# Altium schematic symbol library WRIS-RSKS.SchLib: 516 symbols (part 10 of 10)
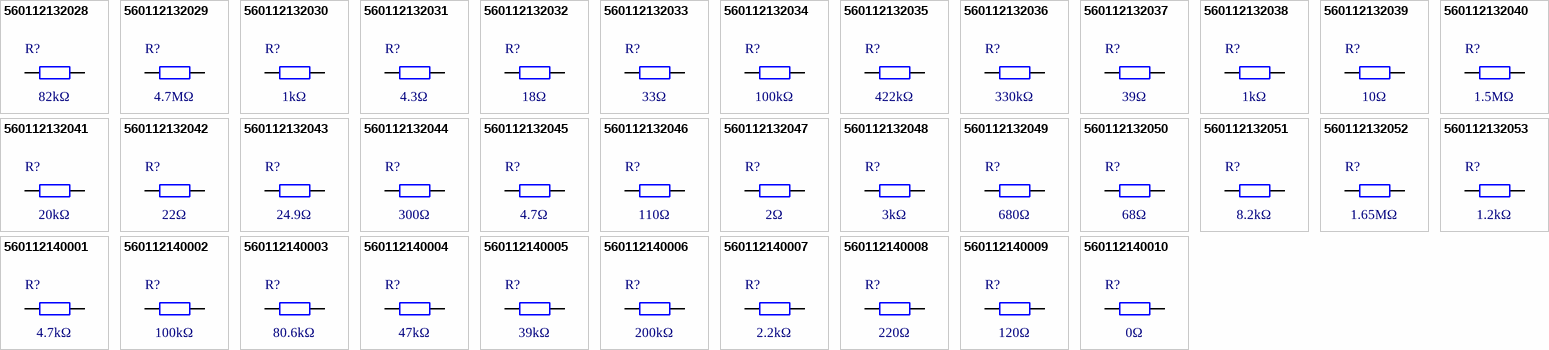
[diagram p21: symbols 560112132028 to 560112140010]

## 560112132035
designator R?, comment 422kΩ
WRIS-RSKS Thick Film Resistor, size 1206, 422kΩ, +/-1%, 250mW; Manufacturer Part Number: 560112132035; Manufacturer: Wurth Elektronik; Case/Size Code: 1206; Limiting Element Voltage: 200V; Temperature Coefficient of Resistance Min: -100ppm/°C; Temperature Coefficient of Resistance Max: 100ppm/°C; Category: Thick Film Resistors; Match Code: WRIS-RSKS; ComponentLink1Description: Website Link; ComponentLink1URL: https://www.we-online.com/redexpert/article/560112132035?ad; ComponentLink2Description: Datasheet Link; ComponentLink2URL: https://www.we-online.com/redexpert/spec/560112132035?ad; Mount: Surface Mount; Min Operating Temperature: -55°C; Max Operating Temperature: 155°C; Packaging: Tape and Reel; Length: 3.1mm; Width: 1.6mm; Height: 0.6mm; Rated Power: 250mW; Resistance: 422kΩ; Resistance Tolerance: +/-1%
footprint WRIS-RSKS_1206_Reflow
footprint WRIS-RSKS_1206_Wave
pins: 1, 2

## 560112132036
designator R?, comment 330kΩ
WRIS-RSKS Thick Film Resistor, size 1206, 330kΩ, +/-1%, 250mW; Manufacturer Part Number: 560112132036; Manufacturer: Wurth Elektronik; Case/Size Code: 1206; Limiting Element Voltage: 200V; Temperature Coefficient of Resistance Min: -100ppm/°C; Temperature Coefficient of Resistance Max: 100ppm/°C; Category: Thick Film Resistors; Match Code: WRIS-RSKS; ComponentLink1Description: Website Link; ComponentLink1URL: https://www.we-online.com/redexpert/article/560112132036?ad; ComponentLink2Description: Datasheet Link; ComponentLink2URL: https://www.we-online.com/redexpert/spec/560112132036?ad; Mount: Surface Mount; Min Operating Temperature: -55°C; Max Operating Temperature: 155°C; Packaging: Tape and Reel; Length: 3.1mm; Width: 1.6mm; Height: 0.6mm; Rated Power: 250mW; Resistance: 330kΩ; Resistance Tolerance: +/-1%
footprint WRIS-RSKS_1206_Reflow
footprint WRIS-RSKS_1206_Wave
pins: 1, 2

## 560112132037
designator R?, comment 39Ω
WRIS-RSKS Thick Film Resistor, size 1206, 39Ω, +/-1%, 250mW; Manufacturer Part Number: 560112132037; Manufacturer: Wurth Elektronik; Case/Size Code: 1206; Limiting Element Voltage: 200V; Temperature Coefficient of Resistance Min: -100ppm/°C; Temperature Coefficient of Resistance Max: 100ppm/°C; Category: Thick Film Resistors; Match Code: WRIS-RSKS; ComponentLink1Description: Website Link; ComponentLink1URL: https://www.we-online.com/redexpert/article/560112132037?ad; ComponentLink2Description: Datasheet Link; ComponentLink2URL: https://www.we-online.com/redexpert/spec/560112132037?ad; Mount: Surface Mount; Min Operating Temperature: -55°C; Max Operating Temperature: 155°C; Packaging: Tape and Reel; Length: 3.1mm; Width: 1.6mm; Height: 0.6mm; Rated Power: 250mW; Resistance: 39Ω; Resistance Tolerance: +/-1%
footprint WRIS-RSKS_1206_Reflow
footprint WRIS-RSKS_1206_Wave
pins: 1, 2

## 560112132038
designator R?, comment 1kΩ
WRIS-RSKS Thick Film Resistor, size 1206, 1kΩ, +/-1%, 250mW; Manufacturer Part Number: 560112132038; Manufacturer: Wurth Elektronik; Case/Size Code: 1206; Limiting Element Voltage: 200V; Temperature Coefficient of Resistance Min: -100ppm/°C; Temperature Coefficient of Resistance Max: 100ppm/°C; Category: Thick Film Resistors; Match Code: WRIS-RSKS; ComponentLink1Description: Website Link; ComponentLink1URL: https://www.we-online.com/redexpert/article/560112132038?ad; ComponentLink2Description: Datasheet Link; ComponentLink2URL: https://www.we-online.com/redexpert/spec/560112132038?ad; Mount: Surface Mount; Min Operating Temperature: -55°C; Max Operating Temperature: 155°C; Packaging: Tape and Reel; Length: 3.1mm; Width: 1.6mm; Height: 0.6mm; Rated Power: 250mW; Resistance: 1kΩ; Resistance Tolerance: +/-1%
footprint WRIS-RSKS_1206_Reflow
footprint WRIS-RSKS_1206_Wave
pins: 1, 2

## 560112132039
designator R?, comment 10Ω
WRIS-RSKS Thick Film Resistor, size 1206, 10Ω, +/-1%, 250mW; Manufacturer Part Number: 560112132039; Manufacturer: Wurth Elektronik; Case/Size Code: 1206; Limiting Element Voltage: 200V; Temperature Coefficient of Resistance Min: -200ppm/°C; Temperature Coefficient of Resistance Max: 400ppm/°C; Category: Thick Film Resistors; Match Code: WRIS-RSKS; ComponentLink1Description: Website Link; ComponentLink1URL: https://www.we-online.com/redexpert/article/560112132039?ad; ComponentLink2Description: Datasheet Link; ComponentLink2URL: https://www.we-online.com/redexpert/spec/560112132039?ad; Mount: Surface Mount; Min Operating Temperature: -55°C; Max Operating Temperature: 155°C; Packaging: Tape and Reel; Length: 3.1mm; Width: 1.6mm; Height: 0.6mm; Rated Power: 250mW; Resistance: 10Ω; Resistance Tolerance: +/-1%
footprint WRIS-RSKS_1206_Reflow
footprint WRIS-RSKS_1206_Wave
pins: 1, 2

## 560112132040
designator R?, comment 1.5MΩ
WRIS-RSKS Thick Film Resistor, size 1206, 1.5MΩ, +/-1%, 250mW; Manufacturer Part Number: 560112132040; Manufacturer: Wurth Elektronik; Case/Size Code: 1206; Limiting Element Voltage: 200V; Temperature Coefficient of Resistance Min: -200ppm/°C; Temperature Coefficient of Resistance Max: 200ppm/°C; Category: Thick Film Resistors; Match Code: WRIS-RSKS; ComponentLink1Description: Website Link; ComponentLink1URL: https://www.we-online.com/redexpert/article/560112132040?ad; ComponentLink2Description: Datasheet Link; ComponentLink2URL: https://www.we-online.com/redexpert/spec/560112132040?ad; Mount: Surface Mount; Min Operating Temperature: -55°C; Max Operating Temperature: 155°C; Packaging: Tape and Reel; Length: 3.1mm; Width: 1.6mm; Height: 0.6mm; Rated Power: 250mW; Resistance: 1.5MΩ; Resistance Tolerance: +/-1%
footprint WRIS-RSKS_1206_Reflow
footprint WRIS-RSKS_1206_Wave
pins: 1, 2

## 560112132041
designator R?, comment 20kΩ
WRIS-RSKS Thick Film Resistor, size 1206, 20kΩ, +/-1%, 250mW; Manufacturer Part Number: 560112132041; Manufacturer: Wurth Elektronik; Case/Size Code: 1206; Limiting Element Voltage: 200V; Temperature Coefficient of Resistance Min: -100ppm/°C; Temperature Coefficient of Resistance Max: 100ppm/°C; Category: Thick Film Resistors; Match Code: WRIS-RSKS; ComponentLink1Description: Website Link; ComponentLink1URL: https://www.we-online.com/redexpert/article/560112132041?ad; ComponentLink2Description: Datasheet Link; ComponentLink2URL: https://www.we-online.com/redexpert/spec/560112132041?ad; Mount: Surface Mount; Min Operating Temperature: -55°C; Max Operating Temperature: 155°C; Packaging: Tape and Reel; Length: 3.1mm; Width: 1.6mm; Height: 0.6mm; Rated Power: 250mW; Resistance: 20kΩ; Resistance Tolerance: +/-1%
footprint WRIS-RSKS_1206_Reflow
footprint WRIS-RSKS_1206_Wave
pins: 1, 2

## 560112132042
designator R?, comment 22Ω
WRIS-RSKS Thick Film Resistor, size 1206, 22Ω, +/-1%, 250mW; Manufacturer Part Number: 560112132042; Manufacturer: Wurth Elektronik; Case/Size Code: 1206; Limiting Element Voltage: 200V; Temperature Coefficient of Resistance Min: -100ppm/°C; Temperature Coefficient of Resistance Max: 100ppm/°C; Category: Thick Film Resistors; Match Code: WRIS-RSKS; ComponentLink1Description: Website Link; ComponentLink1URL: https://www.we-online.com/redexpert/article/560112132042?ad; ComponentLink2Description: Datasheet Link; ComponentLink2URL: https://www.we-online.com/redexpert/spec/560112132042?ad; Mount: Surface Mount; Min Operating Temperature: -55°C; Max Operating Temperature: 155°C; Packaging: Tape and Reel; Length: 3.1mm; Width: 1.6mm; Height: 0.6mm; Rated Power: 250mW; Resistance: 22Ω; Resistance Tolerance: +/-1%
footprint WRIS-RSKS_1206_Reflow
footprint WRIS-RSKS_1206_Wave
pins: 1, 2

## 560112132043
designator R?, comment 24.9Ω
WRIS-RSKS Thick Film Resistor, size 1206, 24.9Ω, +/-1%, 250mW; Manufacturer Part Number: 560112132043; Manufacturer: Wurth Elektronik; Case/Size Code: 1206; Limiting Element Voltage: 200V; Temperature Coefficient of Resistance Min: -100ppm/°C; Temperature Coefficient of Resistance Max: 100ppm/°C; Category: Thick Film Resistors; Match Code: WRIS-RSKS; ComponentLink1Description: Website Link; ComponentLink1URL: https://www.we-online.com/redexpert/article/560112132043?ad; ComponentLink2Description: Datasheet Link; ComponentLink2URL: https://www.we-online.com/redexpert/spec/560112132043?ad; Mount: Surface Mount; Min Operating Temperature: -55°C; Max Operating Temperature: 155°C; Packaging: Tape and Reel; Length: 3.1mm; Width: 1.6mm; Height: 0.6mm; Rated Power: 250mW; Resistance: 24.9Ω; Resistance Tolerance: +/-1%
footprint WRIS-RSKS_1206_Reflow
footprint WRIS-RSKS_1206_Wave
pins: 1, 2

## 560112132044
designator R?, comment 300Ω
WRIS-RSKS Thick Film Resistor, size 1206, 300Ω, +/-1%, 250mW; Manufacturer Part Number: 560112132044; Manufacturer: Wurth Elektronik; Case/Size Code: 1206; Limiting Element Voltage: 200V; Temperature Coefficient of Resistance Min: -100ppm/°C; Temperature Coefficient of Resistance Max: 100ppm/°C; Category: Thick Film Resistors; Match Code: WRIS-RSKS; ComponentLink1Description: Website Link; ComponentLink1URL: https://www.we-online.com/redexpert/article/560112132044?ad; ComponentLink2Description: Datasheet Link; ComponentLink2URL: https://www.we-online.com/redexpert/spec/560112132044?ad; Mount: Surface Mount; Min Operating Temperature: -55°C; Max Operating Temperature: 155°C; Packaging: Tape and Reel; Length: 3.1mm; Width: 1.6mm; Height: 0.6mm; Rated Power: 250mW; Resistance: 300Ω; Resistance Tolerance: +/-1%
footprint WRIS-RSKS_1206_Reflow
footprint WRIS-RSKS_1206_Wave
pins: 1, 2

## 560112132045
designator R?, comment 4.7Ω
WRIS-RSKS Thick Film Resistor, size 1206, 4.7Ω, +/-1%, 250mW; Manufacturer Part Number: 560112132045; Manufacturer: Wurth Elektronik; Case/Size Code: 1206; Limiting Element Voltage: 200V; Temperature Coefficient of Resistance Min: -200ppm/°C; Temperature Coefficient of Resistance Max: 400ppm/°C; Category: Thick Film Resistors; Match Code: WRIS-RSKS; ComponentLink1Description: Website Link; ComponentLink1URL: https://www.we-online.com/redexpert/article/560112132045?ad; ComponentLink2Description: Datasheet Link; ComponentLink2URL: https://www.we-online.com/redexpert/spec/560112132045?ad; Mount: Surface Mount; Min Operating Temperature: -55°C; Max Operating Temperature: 155°C; Packaging: Tape and Reel; Length: 3.1mm; Width: 1.6mm; Height: 0.6mm; Rated Power: 250mW; Resistance: 4.7Ω; Resistance Tolerance: +/-1%
footprint WRIS-RSKS_1206_Reflow
footprint WRIS-RSKS_1206_Wave
pins: 1, 2

## 560112132046
designator R?, comment 110Ω
WRIS-RSKS Thick Film Resistor, size 1206, 110Ω, +/-1%, 250mW; Manufacturer Part Number: 560112132046; Manufacturer: Wurth Elektronik; Case/Size Code: 1206; Limiting Element Voltage: 200V; Temperature Coefficient of Resistance Min: -100ppm/°C; Temperature Coefficient of Resistance Max: 100ppm/°C; Category: Thick Film Resistors; Match Code: WRIS-RSKS; ComponentLink1Description: Website Link; ComponentLink1URL: https://www.we-online.com/redexpert/article/560112132046?ad; ComponentLink2Description: Datasheet Link; ComponentLink2URL: https://www.we-online.com/redexpert/spec/560112132046?ad; Mount: Surface Mount; Min Operating Temperature: -55°C; Max Operating Temperature: 155°C; Packaging: Tape and Reel; Length: 3.1mm; Width: 1.6mm; Height: 0.6mm; Rated Power: 250mW; Resistance: 110Ω; Resistance Tolerance: +/-1%
footprint WRIS-RSKS_1206_Reflow
footprint WRIS-RSKS_1206_Wave
pins: 1, 2

## 560112132047
designator R?, comment 2Ω
WRIS-RSKS Thick Film Resistor, size 1206, 2Ω, +/-5%, 250mW; Manufacturer Part Number: 560112132047; Manufacturer: Wurth Elektronik; Case/Size Code: 1206; Limiting Element Voltage: 200V; Temperature Coefficient of Resistance Min: -200ppm/°C; Temperature Coefficient of Resistance Max: 400ppm/°C; Category: Thick Film Resistors; Match Code: WRIS-RSKS; ComponentLink1Description: Website Link; ComponentLink1URL: https://www.we-online.com/redexpert/article/560112132047?ad; ComponentLink2Description: Datasheet Link; ComponentLink2URL: https://www.we-online.com/redexpert/spec/560112132047?ad; Mount: Surface Mount; Min Operating Temperature: -55°C; Max Operating Temperature: 155°C; Packaging: Tape and Reel; Length: 3.1mm; Width: 1.6mm; Height: 0.6mm; Rated Power: 250mW; Resistance: 2Ω; Resistance Tolerance: +/-5%
footprint WRIS-RSKS_1206_Reflow
footprint WRIS-RSKS_1206_Wave
pins: 1, 2

## 560112132048
designator R?, comment 3kΩ
WRIS-RSKS Thick Film Resistor, size 1206, 3kΩ, +/-1%, 250mW; Manufacturer Part Number: 560112132048; Manufacturer: Wurth Elektronik; Case/Size Code: 1206; Limiting Element Voltage: 200V; Temperature Coefficient of Resistance Min: -100ppm/°C; Temperature Coefficient of Resistance Max: 100ppm/°C; Category: Thick Film Resistors; Match Code: WRIS-RSKS; ComponentLink1Description: Website Link; ComponentLink1URL: https://www.we-online.com/redexpert/article/560112132048?ad; ComponentLink2Description: Datasheet Link; ComponentLink2URL: https://www.we-online.com/redexpert/spec/560112132048?ad; Mount: Surface Mount; Min Operating Temperature: -55°C; Max Operating Temperature: 155°C; Packaging: Tape and Reel; Length: 3.1mm; Width: 1.6mm; Height: 0.6mm; Rated Power: 250mW; Resistance: 3kΩ; Resistance Tolerance: +/-1%
footprint WRIS-RSKS_1206_Reflow
footprint WRIS-RSKS_1206_Wave
pins: 1, 2

## 560112132049
designator R?, comment 680Ω
WRIS-RSKS Thick Film Resistor, size 1206, 680Ω, +/-5%, 250mW; Manufacturer Part Number: 560112132049; Manufacturer: Wurth Elektronik; Case/Size Code: 1206; Limiting Element Voltage: 200V; Temperature Coefficient of Resistance Min: -100ppm/°C; Temperature Coefficient of Resistance Max: 100ppm/°C; Category: Thick Film Resistors; Match Code: WRIS-RSKS; ComponentLink1Description: Website Link; ComponentLink1URL: https://www.we-online.com/redexpert/article/560112132049?ad; ComponentLink2Description: Datasheet Link; ComponentLink2URL: https://www.we-online.com/redexpert/spec/560112132049?ad; Mount: Surface Mount; Min Operating Temperature: -55°C; Max Operating Temperature: 155°C; Packaging: Tape and Reel; Length: 3.1mm; Width: 1.6mm; Height: 0.6mm; Rated Power: 250mW; Resistance: 680Ω; Resistance Tolerance: +/-5%
footprint WRIS-RSKS_1206_Reflow
footprint WRIS-RSKS_1206_Wave
pins: 1, 2

## 560112132050
designator R?, comment 68Ω
WRIS-RSKS Thick Film Resistor, size 1206, 68Ω, +/-1%, 250mW; Manufacturer Part Number: 560112132050; Manufacturer: Wurth Elektronik; Case/Size Code: 1206; Limiting Element Voltage: 200V; Temperature Coefficient of Resistance Min: -100ppm/°C; Temperature Coefficient of Resistance Max: 100ppm/°C; Category: Thick Film Resistors; Match Code: WRIS-RSKS; ComponentLink1Description: Website Link; ComponentLink1URL: https://www.we-online.com/redexpert/article/560112132050?ad; ComponentLink2Description: Datasheet Link; ComponentLink2URL: https://www.we-online.com/redexpert/spec/560112132050?ad; Mount: Surface Mount; Min Operating Temperature: -55°C; Max Operating Temperature: 155°C; Packaging: Tape and Reel; Length: 3.1mm; Width: 1.6mm; Height: 0.6mm; Rated Power: 250mW; Resistance: 68Ω; Resistance Tolerance: +/-1%
footprint WRIS-RSKS_1206_Reflow
footprint WRIS-RSKS_1206_Wave
pins: 1, 2

## 560112132051
designator R?, comment 8.2kΩ
WRIS-RSKS Thick Film Resistor, size 1206, 8.2kΩ, +/-5%, 250mW; Manufacturer Part Number: 560112132051; Manufacturer: Wurth Elektronik; Case/Size Code: 1206; Limiting Element Voltage: 200V; Temperature Coefficient of Resistance Min: -100ppm/°C; Temperature Coefficient of Resistance Max: 100ppm/°C; Category: Thick Film Resistors; Match Code: WRIS-RSKS; ComponentLink1Description: Website Link; ComponentLink1URL: https://www.we-online.com/redexpert/article/560112132051?ad; ComponentLink2Description: Datasheet Link; ComponentLink2URL: https://www.we-online.com/redexpert/spec/560112132051?ad; Mount: Surface Mount; Min Operating Temperature: -55°C; Max Operating Temperature: 155°C; Packaging: Tape and Reel; Length: 3.1mm; Width: 1.6mm; Height: 0.6mm; Rated Power: 250mW; Resistance: 8.2kΩ; Resistance Tolerance: +/-5%
footprint WRIS-RSKS_1206_Reflow
footprint WRIS-RSKS_1206_Wave
pins: 1, 2

## 560112132052
designator R?, comment 1.65MΩ
WRIS-RSKS Thick Film Resistor, size 1206, 1.65MΩ, +/-1%, 250mW; Manufacturer Part Number: 560112132052; Manufacturer: Wurth Elektronik; Case/Size Code: 1206; Limiting Element Voltage: 200V; Temperature Coefficient of Resistance Min: -200ppm/°C; Temperature Coefficient of Resistance Max: 200ppm/°C; Category: Thick Film Resistors; Match Code: WRIS-RSKS; ComponentLink1Description: Website Link; ComponentLink1URL: https://www.we-online.com/redexpert/article/560112132052?ad; ComponentLink2Description: Datasheet Link; ComponentLink2URL: https://www.we-online.com/redexpert/spec/560112132052?ad; Mount: Surface Mount; Min Operating Temperature: -55°C; Max Operating Temperature: 155°C; Packaging: Tape and Reel; Length: 3.1mm; Width: 1.6mm; Height: 0.6mm; Rated Power: 250mW; Resistance: 1.65MΩ; Resistance Tolerance: +/-1%
footprint WRIS-RSKS_1206_Reflow
footprint WRIS-RSKS_1206_Wave
pins: 1, 2

## 560112132053
designator R?, comment 1.2kΩ
WRIS-RSKS Thick Film Resistor, size 1206, 1.2kΩ, +/-1%, 250mW; Manufacturer Part Number: 560112132053; Manufacturer: Wurth Elektronik; Case/Size Code: 1206; Limiting Element Voltage: 200V; Temperature Coefficient of Resistance Min: -100ppm/°C; Temperature Coefficient of Resistance Max: 100ppm/°C; Category: Thick Film Resistors; Match Code: WRIS-RSKS; ComponentLink1Description: Website Link; ComponentLink1URL: https://www.we-online.com/redexpert/article/560112132053?ad; ComponentLink2Description: Datasheet Link; ComponentLink2URL: https://www.we-online.com/redexpert/spec/560112132053?ad; Mount: Surface Mount; Min Operating Temperature: -55°C; Max Operating Temperature: 155°C; Packaging: Tape and Reel; Length: 3.1mm; Width: 1.6mm; Height: 0.6mm; Rated Power: 250mW; Resistance: 1.2kΩ; Resistance Tolerance: +/-1%
footprint WRIS-RSKS_1206_Reflow
footprint WRIS-RSKS_1206_Wave
pins: 1, 2

## 560112140001
designator R?, comment 4.7kΩ
WRIS-RSKS Thick Film Resistor, size 1210, 4.7kΩ, +/-5%, 500mW; Manufacturer Part Number: 560112140001; Manufacturer: Wurth Elektronik; Case/Size Code: 1210; Limiting Element Voltage: 200V; Temperature Coefficient of Resistance Min: -100ppm/°C; Temperature Coefficient of Resistance Max: 100ppm/°C; Category: Thick Film Resistors; Match Code: WRIS-RSKS; ComponentLink1Description: Website Link; ComponentLink1URL: https://www.we-online.com/redexpert/article/560112140001?ad; ComponentLink2Description: Datasheet Link; ComponentLink2URL: https://www.we-online.com/redexpert/spec/560112140001?ad; Mount: Surface Mount; Min Operating Temperature: -55°C; Max Operating Temperature: 155°C; Packaging: Tape and Reel; Length: 3.1mm; Width: 2.6mm; Height: 0.55mm; Rated Power: 500mW; Resistance: 4.7kΩ; Resistance Tolerance: +/-5%
footprint WRIS-RSKS_1210_Reflow
footprint WRIS-RSKS_1210_Wave
pins: 1, 2

## 560112140002
designator R?, comment 100kΩ
WRIS-RSKS Thick Film Resistor, size 1210, 100kΩ, +/-5%, 500mW; Manufacturer Part Number: 560112140002; Manufacturer: Wurth Elektronik; Case/Size Code: 1210; Limiting Element Voltage: 200V; Temperature Coefficient of Resistance Min: -100ppm/°C; Temperature Coefficient of Resistance Max: 100ppm/°C; Category: Thick Film Resistors; Match Code: WRIS-RSKS; ComponentLink1Description: Website Link; ComponentLink1URL: https://www.we-online.com/redexpert/article/560112140002?ad; ComponentLink2Description: Datasheet Link; ComponentLink2URL: https://www.we-online.com/redexpert/spec/560112140002?ad; Mount: Surface Mount; Min Operating Temperature: -55°C; Max Operating Temperature: 155°C; Packaging: Tape and Reel; Length: 3.1mm; Width: 2.6mm; Height: 0.55mm; Rated Power: 500mW; Resistance: 100kΩ; Resistance Tolerance: +/-5%
footprint WRIS-RSKS_1210_Reflow
footprint WRIS-RSKS_1210_Wave
pins: 1, 2

## 560112140003
designator R?, comment 80.6kΩ
WRIS-RSKS Thick Film Resistor, size 1210, 80.6kΩ, +/-1%, 500mW; Manufacturer Part Number: 560112140003; Manufacturer: Wurth Elektronik; Case/Size Code: 1210; Limiting Element Voltage: 200V; Temperature Coefficient of Resistance Min: -100ppm/°C; Temperature Coefficient of Resistance Max: 100ppm/°C; Category: Thick Film Resistors; Match Code: WRIS-RSKS; ComponentLink1Description: Website Link; ComponentLink1URL: https://www.we-online.com/redexpert/article/560112140003?ad; ComponentLink2Description: Datasheet Link; ComponentLink2URL: https://www.we-online.com/redexpert/spec/560112140003?ad; Mount: Surface Mount; Min Operating Temperature: -55°C; Max Operating Temperature: 155°C; Packaging: Tape and Reel; Length: 3.1mm; Width: 2.6mm; Height: 0.55mm; Rated Power: 500mW; Resistance: 80.6kΩ; Resistance Tolerance: +/-1%
footprint WRIS-RSKS_1210_Reflow
footprint WRIS-RSKS_1210_Wave
pins: 1, 2

## 560112140004
designator R?, comment 47kΩ
WRIS-RSKS Thick Film Resistor, size 1210, 47kΩ, +/-5%, 500mW; Manufacturer Part Number: 560112140004; Manufacturer: Wurth Elektronik; Case/Size Code: 1210; Limiting Element Voltage: 200V; Temperature Coefficient of Resistance Min: -100ppm/°C; Temperature Coefficient of Resistance Max: 100ppm/°C; Category: Thick Film Resistors; Match Code: WRIS-RSKS; ComponentLink1Description: Website Link; ComponentLink1URL: https://www.we-online.com/redexpert/article/560112140004?ad; ComponentLink2Description: Datasheet Link; ComponentLink2URL: https://www.we-online.com/redexpert/spec/560112140004?ad; Mount: Surface Mount; Min Operating Temperature: -55°C; Max Operating Temperature: 155°C; Packaging: Tape and Reel; Length: 3.1mm; Width: 2.6mm; Height: 0.55mm; Rated Power: 500mW; Resistance: 47kΩ; Resistance Tolerance: +/-5%
footprint WRIS-RSKS_1210_Reflow
footprint WRIS-RSKS_1210_Wave
pins: 1, 2

## 560112140005
designator R?, comment 39kΩ
WRIS-RSKS Thick Film Resistor, size 1210, 39kΩ, +/-1%, 500mW; Manufacturer Part Number: 560112140005; Manufacturer: Wurth Elektronik; Case/Size Code: 1210; Limiting Element Voltage: 200V; Temperature Coefficient of Resistance Min: -100ppm/°C; Temperature Coefficient of Resistance Max: 100ppm/°C; Category: Thick Film Resistors; Match Code: WRIS-RSKS; ComponentLink1Description: Website Link; ComponentLink1URL: https://www.we-online.com/redexpert/article/560112140005?ad; ComponentLink2Description: Datasheet Link; ComponentLink2URL: https://www.we-online.com/redexpert/spec/560112140005?ad; Mount: Surface Mount; Min Operating Temperature: -55°C; Max Operating Temperature: 155°C; Packaging: Tape and Reel; Length: 3.1mm; Width: 2.6mm; Height: 0.55mm; Rated Power: 500mW; Resistance: 39kΩ; Resistance Tolerance: +/-1%
footprint WRIS-RSKS_1210_Reflow
footprint WRIS-RSKS_1210_Wave
pins: 1, 2

## 560112140006
designator R?, comment 200kΩ
WRIS-RSKS Thick Film Resistor, size 1210, 200kΩ, +/-5%, 500mW; Manufacturer Part Number: 560112140006; Manufacturer: Wurth Elektronik; Case/Size Code: 1210; Limiting Element Voltage: 200V; Temperature Coefficient of Resistance Min: -100ppm/°C; Temperature Coefficient of Resistance Max: 100ppm/°C; Category: Thick Film Resistors; Match Code: WRIS-RSKS; ComponentLink1Description: Website Link; ComponentLink1URL: https://www.we-online.com/redexpert/article/560112140006?ad; ComponentLink2Description: Datasheet Link; ComponentLink2URL: https://www.we-online.com/redexpert/spec/560112140006?ad; Mount: Surface Mount; Min Operating Temperature: -55°C; Max Operating Temperature: 155°C; Packaging: Tape and Reel; Length: 3.1mm; Width: 2.6mm; Height: 0.55mm; Rated Power: 500mW; Resistance: 200kΩ; Resistance Tolerance: +/-5%
footprint WRIS-RSKS_1210_Reflow
footprint WRIS-RSKS_1210_Wave
pins: 1, 2

## 560112140007
designator R?, comment 2.2kΩ
WRIS-RSKS Thick Film Resistor, size 1210, 2.2kΩ, +/-5%, 500mW; Manufacturer Part Number: 560112140007; Manufacturer: Wurth Elektronik; Case/Size Code: 1210; Limiting Element Voltage: 200V; Temperature Coefficient of Resistance Min: -100ppm/°C; Temperature Coefficient of Resistance Max: 100ppm/°C; Category: Thick Film Resistors; Match Code: WRIS-RSKS; ComponentLink1Description: Website Link; ComponentLink1URL: https://www.we-online.com/redexpert/article/560112140007?ad; ComponentLink2Description: Datasheet Link; ComponentLink2URL: https://www.we-online.com/redexpert/spec/560112140007?ad; Mount: Surface Mount; Min Operating Temperature: -55°C; Max Operating Temperature: 155°C; Packaging: Tape and Reel; Length: 3.1mm; Width: 2.6mm; Height: 0.55mm; Rated Power: 500mW; Resistance: 2.2kΩ; Resistance Tolerance: +/-5%
footprint WRIS-RSKS_1210_Reflow
footprint WRIS-RSKS_1210_Wave
pins: 1, 2

## 560112140008
designator R?, comment 220Ω
WRIS-RSKS Thick Film Resistor, size 1210, 220Ω, +/-5%, 500mW; Manufacturer Part Number: 560112140008; Manufacturer: Wurth Elektronik; Case/Size Code: 1210; Limiting Element Voltage: 200V; Temperature Coefficient of Resistance Min: -100ppm/°C; Temperature Coefficient of Resistance Max: 100ppm/°C; Category: Thick Film Resistors; Match Code: WRIS-RSKS; ComponentLink1Description: Website Link; ComponentLink1URL: https://www.we-online.com/redexpert/article/560112140008?ad; ComponentLink2Description: Datasheet Link; ComponentLink2URL: https://www.we-online.com/redexpert/spec/560112140008?ad; Mount: Surface Mount; Min Operating Temperature: -55°C; Max Operating Temperature: 155°C; Packaging: Tape and Reel; Length: 3.1mm; Width: 2.6mm; Height: 0.55mm; Rated Power: 500mW; Resistance: 220Ω; Resistance Tolerance: +/-5%
footprint WRIS-RSKS_1210_Reflow
footprint WRIS-RSKS_1210_Wave
pins: 1, 2

## 560112140009
designator R?, comment 120Ω
WRIS-RSKS Thick Film Resistor, size 1210, 120Ω, +/-5%, 500mW; Manufacturer Part Number: 560112140009; Manufacturer: Wurth Elektronik; Case/Size Code: 1210; Limiting Element Voltage: 200V; Temperature Coefficient of Resistance Min: -100ppm/°C; Temperature Coefficient of Resistance Max: 100ppm/°C; Category: Thick Film Resistors; Match Code: WRIS-RSKS; ComponentLink1Description: Website Link; ComponentLink1URL: https://www.we-online.com/redexpert/article/560112140009?ad; ComponentLink2Description: Datasheet Link; ComponentLink2URL: https://www.we-online.com/redexpert/spec/560112140009?ad; Mount: Surface Mount; Min Operating Temperature: -55°C; Max Operating Temperature: 155°C; Packaging: Tape and Reel; Length: 3.1mm; Width: 2.6mm; Height: 0.55mm; Rated Power: 500mW; Resistance: 120Ω; Resistance Tolerance: +/-5%
footprint WRIS-RSKS_1210_Reflow
footprint WRIS-RSKS_1210_Wave
pins: 1, 2

## 560112140010
designator R?, comment 0Ω
WRIS-RSKS Thick Film Resistor, size 1210, 0Ω, +0.05Ω/-0Ω, 330mW; Manufacturer Part Number: 560112140010; Manufacturer: Wurth Elektronik; Case/Size Code: 1210; Limiting Element Voltage: 0V; Temperature Coefficient of Resistance Min: 0ppm/°C; Category: Thick Film Resistors; Match Code: WRIS-RSKS; ComponentLink1Description: Website Link; ComponentLink1URL: https://www.we-online.com/redexpert/article/560112140010?ad; ComponentLink2Description: Datasheet Link; ComponentLink2URL: https://www.we-online.com/redexpert/spec/560112140010?ad; Mount: Surface Mount; Min Operating Temperature: -55°C; Max Operating Temperature: 155°C; Packaging: Tape and Reel; Length: 3.1mm; Width: 2.6mm; Height: 0.55mm; Rated Power: 330mW; Resistance: 0Ω; Resistance Tolerance: +0.05Ω/-0Ω; Temperature Coefficient of Resistance Max: 0ppm/°C
footprint WRIS-RSKS_1210_Reflow
footprint WRIS-RSKS_1210_Wave
pins: 1, 2